# Altium footprint library SON.PcbLib: 52 footprints (part 4 of 4)
Each footprint in its own frame and in the unit in brackets; x right, y up, seen from the top. Pads: shape width x height; smd on the part's side, far side on the other; paste and mask are expansions set on the pad; w line width, h text height; cw(c..) or ccw(c..) is an arc to the next point about the centre after c.
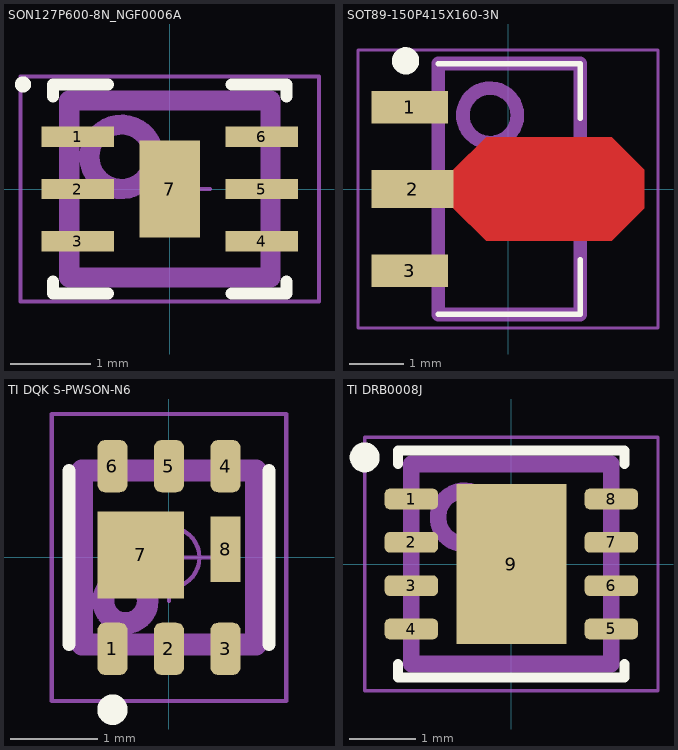
[diagram p3: the footprints below, top view; thin cyan lines are the x and y axes]

## SON127P600-8N_NGF0006A [mm]
height 0.8
pads (7):
  rect 0.9x0.25 smd: 1(-1.145,0.65) 2(-1.145,0) 3(-1.145,-0.65) 4(1.145,-0.65) 5(1.145,0) 6(1.145,0.65)
  rect 0.75x1.2 smd: 7(0,0)
Top Overlay:
  circle w0.1: c-1.825,1.3 r0.05
  lines w0.15: -1.45,-1.15 -1.45,-1.3 -0.77,-1.3 ; -1.45,1.15 -1.45,1.3 -0.77,1.3 ; 0.77,-1.3 1.45,-1.3 1.45,-1.15 ; 0.77,1.3 1.45,1.3 1.45,1.15
Top Assembly:
  circle w0.25: c-0.6,0.4 r0.4
  lines w0.25: -1.25,-1.1 1.25,-1.1 1.25,1.1 -1.25,1.1 -1.25,-1.1
  text ".Designator" at 0,0.47 h2.5
Top Courtyard:
  lines w0.05: -0.5,0 0.5,0 ; 0,-0.5 0,0.5 ; -1.855,-1.4 1.855,-1.4 1.855,1.4 -1.855,1.4 -1.855,-1.4
3D body "SON127P600-8N_NGF0006A.step": height 0.8, standoff 0, extent -1.35,-1.1 1.35,1.1

## SOT89-150P415X160-3N [mm] "SOT89, 3-Leads, Body 4.50x2.50mm, Pitch 1.50mm, Lead Span 4.1mm, IPC Medium Density"
height 1.6
pads (3):
  rect 1.4x0.6 smd: 1(-1.8,1.5) 3(-1.8,-1.5)
  rect 1.5x0.7 smd: 2(-1.75,0)
Top Layer:
  region: -1,0.35 -0.4,0.95 1.9,0.95 2.5,0.35 2.5,-0.35 1.9,-0.95 -0.4,-0.95 -1,-0.35
Top Overlay:
  circle w0.25: c-1.878,2.35 r0.125
  lines w0.1: -1.278,-2.3 1.322,-2.3 1.322,-1.3 ; -1.278,2.3 1.322,2.3 1.322,1.3
Top Assembly:
  circle w0.25: c-0.328,1.35 r0.5
  lines w0.25: -1.278,-2.3 1.322,-2.3 1.322,2.3 -1.278,2.3 -1.278,-2.3
  text ".Designator" at 0.6,-2 h1.5
Top Courtyard:
  lines w0.05: -2.75,-2.55 2.75,-2.55 2.75,2.55 -2.75,2.55 -2.75,-2.55
  lines w0.1: -0.478,0 0.522,0 ; 0.022,-0.5 0.022,0.5
3D body "SOT89-150P415X160-3N.step": height 1.6, standoff 0, extent -2.2,-2.297 2.1,2.297

## TI DQK S-PWSON-N6 [mm] "TI Plastic Small Outline No-Lead 6pins, 2 gnd"
height 0.8
pads (8):
  rrect50% 0.35x0.6 smd: 1(-0.65,-1.05) 2(0,-1.05) 3(0.65,-1.05) 4(0.65,1.05) 5(0,1.05) 6(-0.65,1.05)
  rect 1x1 smd: 7(-0.325,0.03)
  rect 0.35x0.75 smd: 8(0.65,0.095)
Top Overlay:
  circle w0.25: c-0.65,-1.75 r0.05
  lines w0.15: -1.15,-1 -1.15,1 ; 1.15,-1 1.15,1
Top Assembly:
  circle w0.25: c-0.5,-0.5 r0.255
  lines w0.25: -1,-1 1,-1 1,1 -1,1 -1,-1
  text ".Designator" at -3.378,1.411 h1.5
Top Courtyard:
  circle w0.05: c0,0 r0.35
  lines w0.05: -0.5,0 0.5,0 ; 0,-0.5 0,0.5 ; -1.35,-1.65 1.35,-1.65 1.35,1.65 -1.35,1.65 -1.35,-1.65
3D body "DQK0006A.stp": height 0.8, standoff 0, extent -1,-1 1,1

## TI DRB0008J [mm] "VSON - 1 mm max height, 3x3"
height 1
pads (9):
  rrect50% 0.8x0.31 smd: 1(-1.5,0.975) 2(-1.5,0.325) 3(-1.5,-0.325) 4(-1.5,-0.975) 5(1.5,-0.975) 6(1.5,-0.325) 7(1.5,0.325) 8(1.5,0.975)
  rect 1.65x2.4 smd: 9(0,0)
Top Overlay:
  circle w0.25: c-2.2,1.6 r0.1
  lines w0.15: -1.7,-1.5 -1.7,-1.7 1.7,-1.7 1.7,-1.5 ; -1.7,1.5 -1.7,1.7 1.7,1.7 1.7,1.5
Top Assembly:
  circle w0.25: c-0.7,0.7 r0.4
  lines w0.25: -1.5,-1.5 1.5,-1.5 1.5,1.5 -1.5,1.5 -1.5,-1.5
  text ".Designator" at -3.378,2.261 h1.5
Top Courtyard:
  circle w0.05: c0,0 r0.25
  lines w0.05: -0.35,0 0.35,0 ; 0,-0.35 0,0.35 ; -2.2,-1.9 2.2,-1.9 2.2,1.9 -2.2,1.9 -2.2,-1.9
3D body "DRB0008J.stp": height 1, standoff 0, extent -1.5,-1.5 1.5,1.5